# EAGLE library part LSM303CTR (library LSM303CTR)
Accelerometer Triple Â±2g/Â±4g/Â±8g/Â±16g 1.9V to 3.6V 12-Pin LGA T/R
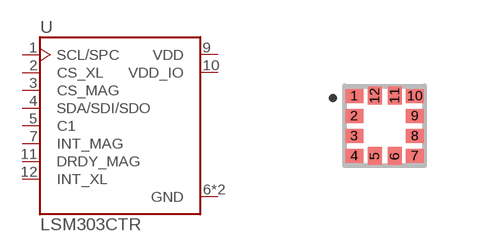
[diagram p0: symbol with the pads of LGA12R50P_200X200X100; footprint LGA12R50P_200X200X100]

Designator prefix U

## LSM303CTR (Availability: Unavailable; Description: MEMS Module, Tri-Axis Accelerometer, Tri-Axis Magnetometer, 2g, 4g, 8g, 16g, LGA, 12, 1.9 V; MF: STMicroelectronics; MP: LSM303CTR; Package: LGA-12 STMicroelectronics; Price: None)  [LGA12R50P_200X200X100]
1  SCL/SPC
2  CS_XL
3  CS_MAG
4  SDA/SDI/SDO
5  C1
6  GND  pwr
7  INT_MAG
8  GND  pwr
9  VDD  pwr
10  VDD_IO  pwr
11  DRDY_MAG
12  INT_XL

## Footprint LGA12R50P_200X200X100 (pad centres in mm)
smd 0.45 x 0.35: 1 -0.76,0.75; 2 -0.76,0.25; 3 -0.76,-0.25; 4 -0.76,-0.75; 7 0.76,-0.75; 8 0.76,-0.25; 9 0.76,0.25; 10 0.76,0.75
smd 0.35 x 0.45: 5 -0.25,-0.76; 6 0.25,-0.76; 11 0.25,0.76; 12 -0.25,0.76